# Altium schematic symbol library BundledUserSymbols.SchLib: 71 symbols
Pins are listed as number, name and electrical type; pins without a type are passive.

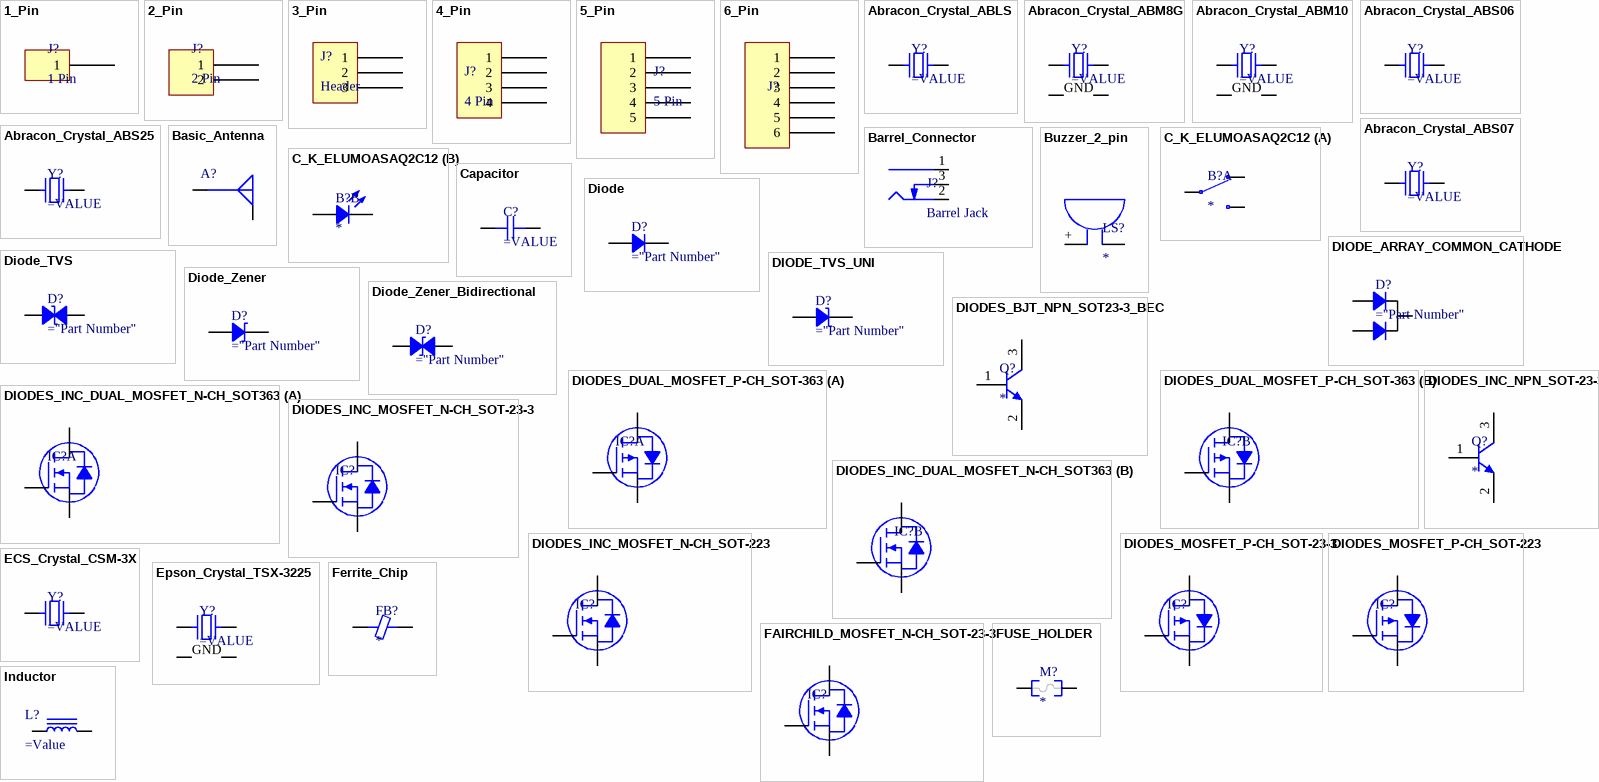
[diagram p0: symbols 1_Pin to Inductor]

## 1_Pin
designator J?, comment 1 Pin
pins: 1

## 2_Pin
designator J?, comment 2 Pin
pins: 1, 2

## 3_Pin
designator J?, comment Header
pins: 1, 2, 3

## 4_Pin
designator J?, comment 4 Pin
pins: 1, 2, 3, 4

## 5_Pin
designator J?, comment 5 Pin
pins: 1, 2, 3, 4, 5

## 6_Pin
designator J?
pins: 1, 2, 3, 4, 5, 6

## Abracon_Crystal_ABLS
designator Y?
SMT Crystal
pins: 1, 2

## Abracon_Crystal_ABM8G
designator Y?
SMT Crystal
pins: 1, 2 GND, 3, 4 GND

## Abracon_Crystal_ABM10
designator Y?
SMT Crystal
pins: 1, 2 GND, 3, 4 GND

## Abracon_Crystal_ABS06
designator Y?
SMT Crystal
pins: 1, 2

## Abracon_Crystal_ABS07
designator Y?
SMT Crystal
pins: 1, 2

## Abracon_Crystal_ABS25
designator Y?
SMT Crystal
pins: 1, 4

## Barrel_Connector
designator J?, comment Barrel Jack
pins: 1 Centre, 2 Outer, 3 SW

## Basic_Antenna
designator A?
pins: G, S

## Buzzer_2_pin
designator LS?
pins: +, -

## C_K_ELUMOASAQ2C12
designator B?
part A pins: 2 NO, 3 C, 4 NC
part B pins: 1 C, 5 A

## Capacitor
designator C?
SMT Capacitor
pins: 1, 2

## Diode
designator D?
Rectifier Diode
pins: 1, 2

## DIODE_ARRAY_COMMON_CATHODE
designator D?
Rectifier Diode
pins: 1, 2, 3

## Diode_TVS
designator D?
Zener Diode
pins: 1, 2

## DIODE_TVS_UNI
designator D?
Rectifier Diode
pins: 1, 2

## Diode_Zener
designator D?
Zener Diode
pins: 1, 2

## Diode_Zener_Bidirectional
designator D?
Bidirectional Zener Diode
pins: 1, 2

## DIODES_BJT_NPN_SOT23-3_BEC
designator Q?
pins: 1 B, 2 E, 3 C

## DIODES_DUAL_MOSFET_P-CH_SOT-363
designator IC?
part A pins: 1 S1, 2 G1, 6 D1
part B pins: 3 D2, 4 S2, 5 G2

## DIODES_INC_DUAL_MOSFET_N-CH_SOT363
designator IC?
part A pins: 3 D1, 4 S1, 5 G1
part B pins: 1 S2, 2 G2, 6 D2

## DIODES_INC_MOSFET_N-CH_SOT-23-3
designator IC?
pins: 1 G, 2 S, 3 D

## DIODES_INC_MOSFET_N-CH_SOT-223
designator IC?
pins: 1 G, 2 D, 3 S, 4 D

## DIODES_INC_NPN_SOT-23-3
designator Q?
pins: 1 B, 2 E, 3 C

## DIODES_MOSFET_P-CH_SOT-23-3
designator IC?
pins: 1 G, 2 S, 3 D

## DIODES_MOSFET_P-CH_SOT-223
designator IC?
pins: 1 G, 2 D, 3 S, 4 D

## ECS_Crystal_CSM-3X
designator Y?
SMT Crystal
pins: 1, 2

## Epson_Crystal_TSX-3225
designator Y?
SMT Crystal
pins: 1, 2 GND, 3, 4 GND

## FAIRCHILD_MOSFET_N-CH_SOT-23-3
designator IC?
pins: 1 G, 2 S, 3 D

## Ferrite_Chip
designator FB?
SMT Ferrite Chip
pins: 1, 2

## FUSE_HOLDER
designator M?
pins: 1, 2

## Inductor
designator L?
SMT Inductor
pins: 1, 2

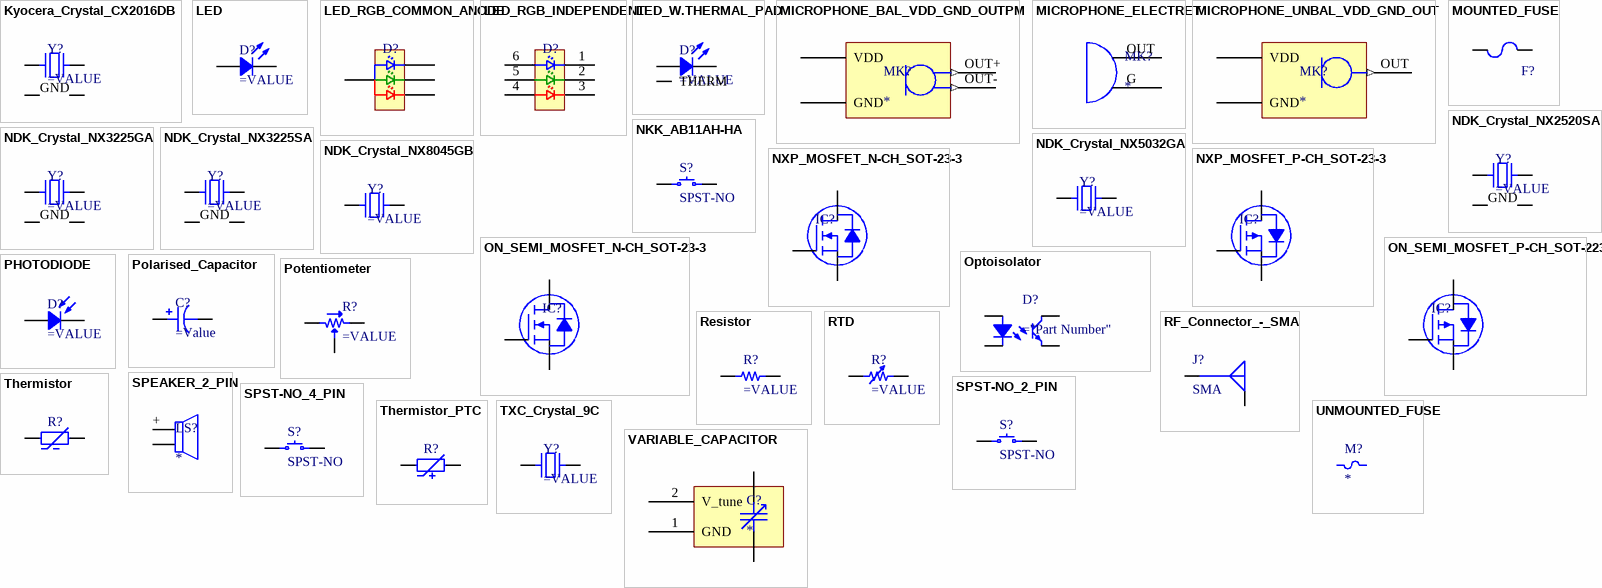
[diagram p1: symbols Kyocera_Crystal_CX2016DB to VARIABLE_CAPACITOR]

## Kyocera_Crystal_CX2016DB
designator Y?
SMT Crystal
pins: 1, 2 GND, 3, 4 GND

## LED
designator D?
Chip LED
pins: 1, 2

## LED_RGB_COMMON_ANODE
designator D?
pins: B BLUE, C ANODE, G GREEN, R RED

## LED_RGB_INDEPENDENT
designator D?
pins: 1 C1, 2 C2, 3 C3, 4 A3, 5 A2, 6 A1

## LED_W.THERMAL_PAD
designator D?
Chip LED
pins: 0 THERM, 1, 2

## MICROPHONE_BAL_VDD_GND_OUTPM
designator MK?
pins: G GND, OUT+ (out), OUT- (out), VDD

## MICROPHONE_ELECTRET
designator MK?
pins: G GND, OUT

## MICROPHONE_UNBAL_VDD_GND_OUT
designator MK?
pins: G GND, OUT (out), VDD

## MOUNTED_FUSE
designator F?  (value not drawn)
GENERIC_fuse
pins: 1, 2

## NDK_Crystal_NX2520SA
designator Y?
SMT Crystal
pins: 1, 2 GND, 3, 4 GND

## NDK_Crystal_NX3225GA
designator Y?
SMT Crystal
pins: 1, 2 GND, 3, 4 GND

## NDK_Crystal_NX3225SA
designator Y?
SMT Crystal
pins: 1, 2 GND, 3, 4 GND

## NDK_Crystal_NX5032GA
designator Y?
SMT Crystal
pins: 1, 2

## NDK_Crystal_NX8045GB
designator Y?
SMT Crystal
pins: 1, 2

## NKK_AB11AH-HA
designator S?, comment SPST-NO
pins: 1, 3

## NXP_MOSFET_N-CH_SOT-23-3
designator IC?
pins: 1 G, 2 S, 3 D

## NXP_MOSFET_P-CH_SOT-23-3
designator IC?
pins: 1 G, 2 S, 3 D

## ON_SEMI_MOSFET_N-CH_SOT-23-3
designator IC?
pins: 1 G, 2 S, 3 D

## ON_SEMI_MOSFET_P-CH_SOT-223
designator IC?
pins: 1 G, 2 D, 3 S, 4 D

## Optoisolator
designator D?
pins: 1, 2, 3, 4

## PHOTODIODE
designator D?
Photodiode
pins: 1, 2

## Polarised_Capacitor
designator C?
SMT Polarised Capacitor
pins: 1, 2

## Potentiometer
designator R?
Potentiometer
pins: 1, 2, 3

## Resistor
designator R?
SMT Resistor
pins: 1, 2

## RF_Connector_-_SMA
designator J?, comment SMA
pins: G, S

## RTD
designator R?
SMT Resistor
pins: 1, 2

## SPEAKER_2_PIN
designator LS?
pins: +, -

## SPST-NO_2_PIN
designator S?, comment SPST-NO
pins: 1, 2

## SPST-NO_4_PIN
designator S?, comment SPST-NO
pins: 1, 2, 3, 4

## Thermistor
designator R?
SMT Resistor
pins: 1, 2

## Thermistor_PTC
designator R?
SMT Resistor
pins: 1, 2

## TXC_Crystal_9C
designator Y?
SMT Crystal
pins: 1, 2

## UNMOUNTED_FUSE
designator M?

## VARIABLE_CAPACITOR
designator C?
pins: 1 GND, 2 V_tune, 3, 4